# EAGLE library part MOLEX_0512965494 (library molex_0512965494)
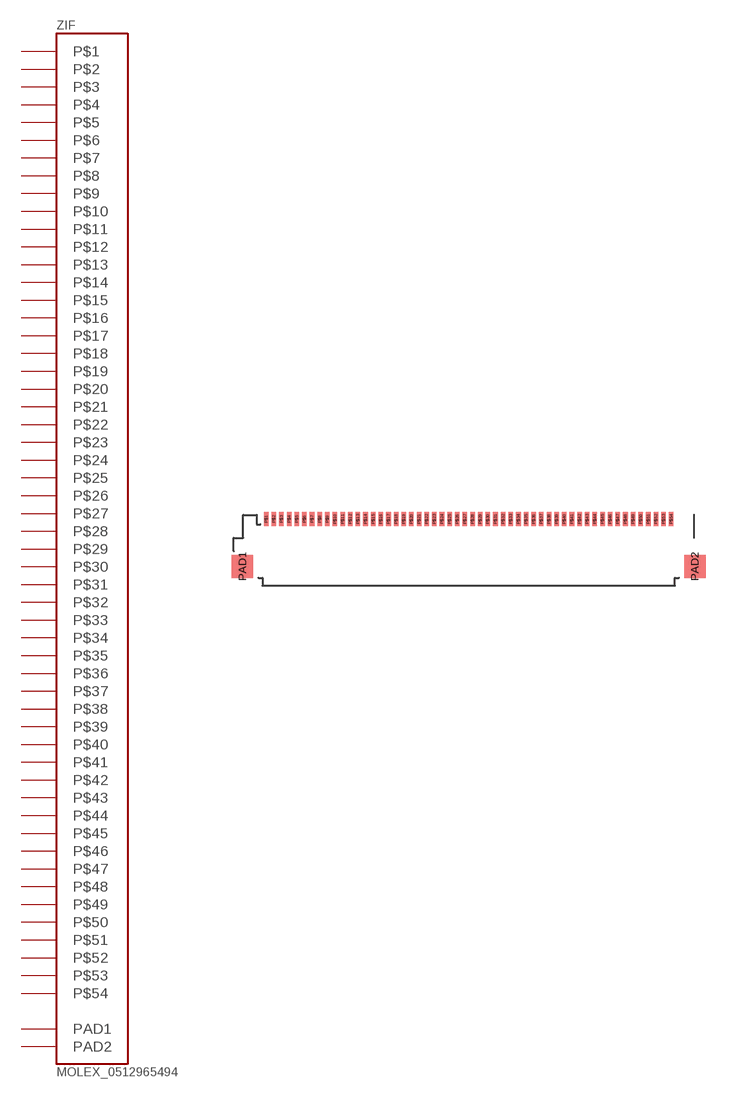
[diagram p0: symbol with the pads of 51296-5494; footprint 51296-5494]

Designator prefix ZIF

## MOLEX_0512965494  [51296-5494]
P$1  P$1
P$2  P$2
P$3  P$3
P$4  P$4
P$5  P$5
P$6  P$6
P$7  P$7
P$8  P$8
P$9  P$9
P$10  P$10
P$11  P$11
P$12  P$12
P$13  P$13
P$14  P$14
P$15  P$15
P$16  P$16
P$17  P$17
P$18  P$18
P$19  P$19
P$20  P$20
P$21  P$21
P$22  P$22
P$23  P$23
P$24  P$24
P$25  P$25
P$26  P$26
P$27  P$27
P$28  P$28
P$29  P$29
P$30  P$30
P$31  P$31
P$32  P$32
P$33  P$33
P$34  P$34
P$35  P$35
P$36  P$36
P$37  P$37
P$38  P$38
P$39  P$39
P$40  P$40
P$41  P$41
P$42  P$42
P$43  P$43
P$44  P$44
P$45  P$45
P$46  P$46
P$47  P$47
P$48  P$48
P$49  P$49
P$50  P$50
P$51  P$51
P$52  P$52
P$53  P$53
P$54  P$54
PAD1  PAD1
PAD2  PAD2

## Footprint 51296-5494 (pad centres in mm)
smd 0.3 x 0.9: P$1 2.25,3.85; P$2 2.75,3.85; P$3 3.25,3.85; P$4 3.75,3.85; P$5 4.25,3.85; P$6 4.75,3.85; P$7 5.25,3.85; P$8 5.75,3.85; P$9 6.25,3.85; P$10 6.75,3.85; P$11 7.25,3.85; P$12 7.75,3.85; P$13 8.25,3.85; P$14 8.75,3.85; P$15 9.25,3.85; P$16 9.75,3.85; P$17 10.25,3.85; P$18 10.75,3.85; P$19 11.25,3.85; P$20 11.75,3.85; P$21 12.25,3.85; P$22 12.75,3.85; P$23 13.25,3.85; P$24 13.75,3.85; P$25 14.25,3.85; P$26 14.75,3.85; P$27 15.25,3.85; P$28 15.75,3.85; P$29 16.25,3.85; P$30 16.75,3.85; P$31 17.25,3.85; P$32 17.75,3.85; P$33 18.25,3.85; P$34 18.75,3.85; P$35 19.25,3.85; P$36 19.75,3.85; P$37 20.25,3.85; P$38 20.75,3.85; P$39 21.25,3.85; P$40 21.75,3.85; P$41 22.25,3.85; P$42 22.75,3.85; P$43 23.25,3.85; P$44 23.75,3.85; P$45 24.25,3.85; P$46 24.75,3.85; P$47 25.25,3.85; P$48 25.75,3.85; P$49 26.25,3.85; P$50 26.75,3.85; P$51 27.25,3.85; P$52 27.75,3.85; P$53 28.25,3.85; P$54 28.75,3.85
smd 1.4 x 1.5: PAD1 0.7,0.75; PAD2 30.3,0.75